# Altium schematic symbol library ptc_thermistor.SchLib: 1 symbol
Pins are listed as number, name and electrical type; pins without a type are passive.

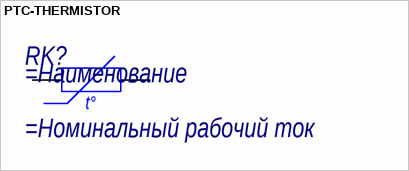
[diagram p0: symbol PTC-THERMISTOR]

## PTC-THERMISTOR
designator RK?
=Описание; Ток: =Номинальный рабочий ток
pins: 1, 2
text: t°